# Altium schematic symbol library MIC5366-1.8YC5-TR.SchLib: 1 symbol
Pins are listed as number, name and electrical type; pins without a type are passive.

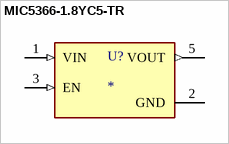
[diagram p0: symbol MIC5366-1.8YC5-TR]

## MIC5366-1.8YC5-TR
designator U?
Linear Voltage Regulator IC Positive Fixed 1 Output 150mA SC-70-5; MP: MIC5366-1.8YC5-TR; MF: Microchip; SnapEDA_Link: https://www.snapeda.com/parts/MIC5366-1.8YC5-TR/Microchip/view-part/?ref=snap; Package: SC-70-5 Microchip; Check_prices: https://www.snapeda.com/parts/MIC5366-1.8YC5-TR/Microchip/view-part/?ref=eda; Purchase-URL: https://pricing.snapeda.com/search/part/MIC5366-1.8YC5-TR/?ref=eda; Digi-Key_Part_Number: 576-3203-2-ND; Value: *
footprint SOT65P210X110-5N
pins: 1 VIN (in), 2 GND (power), 3 EN (in), 5 VOUT (out)